# EAGLE library part TBP02R1W-381-12BE (library TBP02R1W-381-12BE)
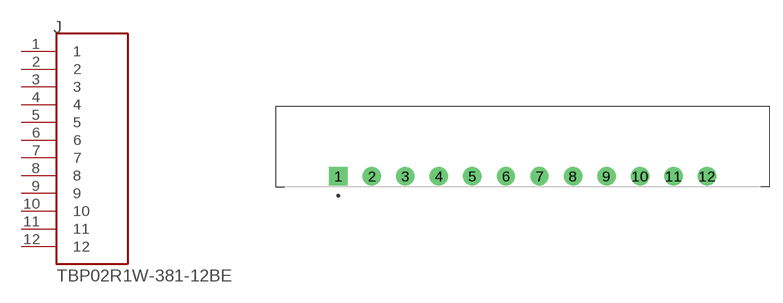
[diagram p0: symbol with the pads of CUI_TBP02R1W-381-12BE; footprint CUI_TBP02R1W-381-12BE]

Designator prefix J

## TBP02R1W-381-12BE (Availability: Unavailable; CUI_purchase_URL: https://www.cuidevices.com/product/interconnect/connectors/terminal-blocks/tbp02r1w-381-series?utm_source=snapeda.com&utm_medium=referral&utm_campaign=snapedaBOM; Description: 2~24 Poles, Pluggable, Receptacle, Horizontal, 3.81 Pitch, Terminal Block Connector; DigiKey-Purchase-URL: https://snapeda.com/shop?store=DigiKey&id=3605002; MF: CUI Devices; MP: TBP02R1W-381-12BE; Package: None; Price: None)  [CUI_TBP02R1W-381-12BE]
1  1  pas
2  2  pas
3  3  pas
4  4  pas
5  5  pas
6  6  pas
7  7  pas
8  8  pas
9  9  pas
10  10  pas
11  11  pas
12  12  pas

## Footprint CUI_TBP02R1W-381-12BE (pad centres in mm)
drill 1.4 square: 1 0,0
drill 1.4: 2 3.81,0; 3 7.62,0; 4 11.43,0; 5 15.24,0; 6 19.05,0; 7 22.86,0; 8 26.67,0; 9 30.48,0; 10 34.29,0; 11 38.1,0; 12 41.91,0